# EAGLE library part ADM203 (library ic)
ADM203: Dual RS232 receiver (Analog Devices) +5V supply, ±5V out, ±30V in, 120kBaud
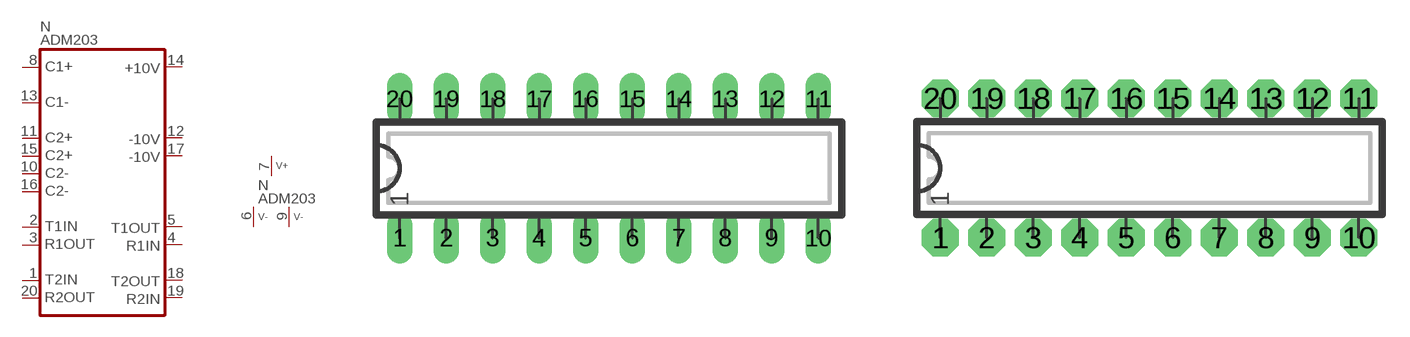
[diagram p84: symbol with the pads of DIP20L; footprints DIP20L, DIP20N]

Designator prefix N; gates  =ADM203 P=V+2GND

## ADM203  [DIP20L]
1   :T2IN  in
2   :T1IN  in
3   :R1OUT  out
4   :R1IN  in
5   :T1OUT  out
6  P:V-1  pwr
7  P:V+  pwr
8   :C1+  pas
9  P:V-2  pwr
10   :C2-  pas
11   :C2+  pas
12   :-10V  out
13   :C1-  pas
14   :+10V  out
15   :C2+  pas
16   :C2-  pas
17   :-10V  out
18   :T2OUT  out
19   :R2IN  in
20   :R2OUT  out

## ADM203L  [DIP20L]
Pads as for DIP20L

## ADM203N  [DIP20N]
Pads as for DIP20L

## ADM203R  [DIP20R]
Pads as for DIP20L

## Footprint DIP20L (pad centres in mm)
DIP-20, long pads Standard IC package, 20 pins
drill 0.813 pad 1.397 long: 1 -11.43,-3.81; 2 -8.89,-3.81; 3 -6.35,-3.81; 4 -3.81,-3.81; 5 -1.27,-3.81; 6 1.27,-3.81; 7 3.81,-3.81; 8 6.35,-3.81; 9 8.89,-3.81; 10 11.43,-3.81; 11 11.43,3.81; 12 8.89,3.81; 13 6.35,3.81; 14 3.81,3.81; 15 1.27,3.81; 16 -1.27,3.81; 17 -3.81,3.81; 18 -6.35,3.81; 19 -8.89,3.81; 20 -11.43,3.81

## Footprint DIP20N (pad centres in mm)
DIP-20 Standard IC package, 20 pins
drill 0.813 pad 2.032 octagon: 1 -11.43,-3.81; 2 -8.89,-3.81; 3 -6.35,-3.81; 4 -3.81,-3.81; 5 -1.27,-3.81; 6 1.27,-3.81; 7 3.81,-3.81; 8 6.35,-3.81; 9 8.89,-3.81; 10 11.43,-3.81; 11 11.43,3.81; 12 8.89,3.81; 13 6.35,3.81; 14 3.81,3.81; 15 1.27,3.81; 16 -1.27,3.81; 17 -3.81,3.81; 18 -6.35,3.81; 19 -8.89,3.81; 20 -11.43,3.81

## Footprint DIP20R (pad centres in mm)
DIP-20, reduced pads Standard IC package, 20 pins
drill 0.813 pad 1.397 square: 1 -11.43,-3.81; 2 -8.89,-3.81; 3 -6.35,-3.81; 4 -3.81,-3.81; 5 -1.27,-3.81; 6 1.27,-3.81; 7 3.81,-3.81; 8 6.35,-3.81; 9 8.89,-3.81; 10 11.43,-3.81; 11 11.43,3.81; 12 8.89,3.81; 13 6.35,3.81; 14 3.81,3.81; 15 1.27,3.81; 16 -1.27,3.81; 17 -3.81,3.81; 18 -6.35,3.81; 19 -8.89,3.81; 20 -11.43,3.81